# EAGLE library part EXP1.1-C (library usb-fpga-1)
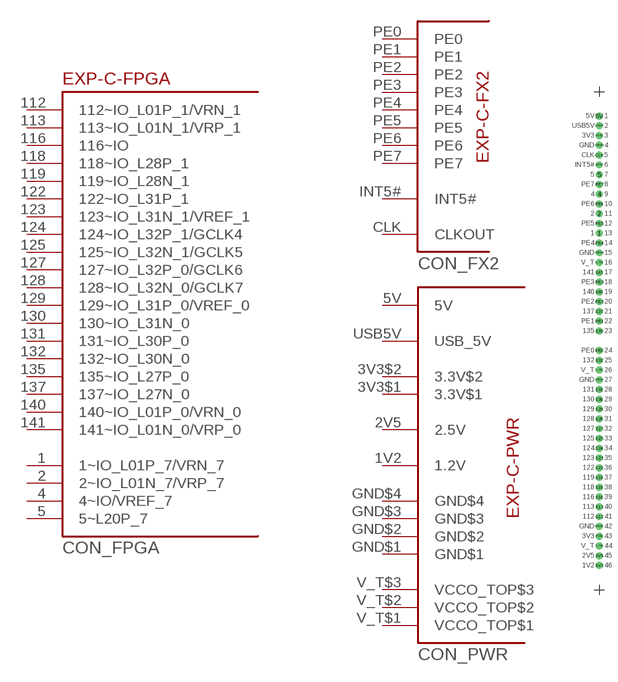
[diagram p2: symbol with the pads of EXP1.1-C; footprint EXP1.1-C]

Designator prefix CON; gates _FPGA=EXP1.1-C-FPGA _FX2=EXP1.1-C-FX2 _PWR=EXP1.1-C-PWR

## EXP1.1-CEXP-1-D  [EXP1.1-C]
1  _FPGA:1~IO_L01P_7/VRN_7
1V2  _PWR:1.2V
2  _FPGA:2~IO_L01N_7/VRP_7
2V5  _PWR:2.5V
3V3$1  _PWR:3.3V$1
3V3$2  _PWR:3.3V$2
4  _FPGA:4~IO/VREF_7
5  _FPGA:5~L20P_7
5V  _PWR:5V
112  _FPGA:112~IO_L01P_1/VRN_1
113  _FPGA:113~IO_L01N_1/VRP_1
116  _FPGA:116~IO
118  _FPGA:118~IO_L28P_1
119  _FPGA:119~IO_L28N_1
122  _FPGA:122~IO_L31P_1
123  _FPGA:123~IO_L31N_1/VREF_1
124  _FPGA:124~IO_L32P_1/GCLK4
125  _FPGA:125~IO_L32N_1/GCLK5
127  _FPGA:127~IO_L32P_0/GCLK6
128  _FPGA:128~IO_L32N_0/GCLK7
129  _FPGA:129~IO_L31P_0/VREF_0
130  _FPGA:130~IO_L31N_0
131  _FPGA:131~IO_L30P_0
132  _FPGA:132~IO_L30N_0
135  _FPGA:135~IO_L27P_0
137  _FPGA:137~IO_L27N_0
140  _FPGA:140~IO_L01P_0/VRN_0
141  _FPGA:141~IO_L01N_0/VRP_0
CLK  _FX2:CLKOUT
GND$1  _PWR:GND$1
GND$2  _PWR:GND$2
GND$3  _PWR:GND$3
GND$4  _PWR:GND$4
INT5#  _FX2:INT5#
PE0  _FX2:PE0
PE1  _FX2:PE1
PE2  _FX2:PE2
PE3  _FX2:PE3
PE4  _FX2:PE4
PE5  _FX2:PE5
PE6  _FX2:PE6
PE7  _FX2:PE7
USB5V  _PWR:USB_5V
V_T$1  _PWR:VCCO_TOP$1
V_T$2  _PWR:VCCO_TOP$2
V_T$3  _PWR:VCCO_TOP$3

## Footprint EXP1.1-C (pad centres in mm)
drill 1.2 round: 1 0,30.48; 1V2 0,-55.88; 2 0,35.56; 2V5 0,-53.34; 3V3$1 0,55.88; 3V3$2 0,-48.26; 4 0,40.64; 5 0,45.72; 5V 0,60.96; 112 0,-43.18; 113 0,-40.64; 116 0,-38.1; 118 0,-35.56; 119 0,-33.02; 122 0,-30.48; 123 0,-27.94; 124 0,-25.4; 125 0,-22.86; 127 0,-20.32; 128 0,-17.78; 129 0,-15.24; 130 0,-12.7; 131 0,-10.16; 132 0,-2.54; 135 0,5.08; 137 0,10.16; 140 0,15.24; 141 0,20.32; CLK 0,50.8; GND$1 0,-7.62; GND$2 0,-45.72; GND$3 0,25.4; GND$4 0,53.34; INT5# 0,48.26; PE0 0,0; PE1 0,7.62; PE2 0,12.7; PE3 0,17.78; PE4 0,27.94; PE5 0,33.02; PE6 0,38.1; PE7 0,43.18; USB5V 0,58.42; V_T$1 0,-5.08; V_T$2 0,-50.8; V_T$3 0,22.86